# EAGLE library part LI-2 (library Cubesat)
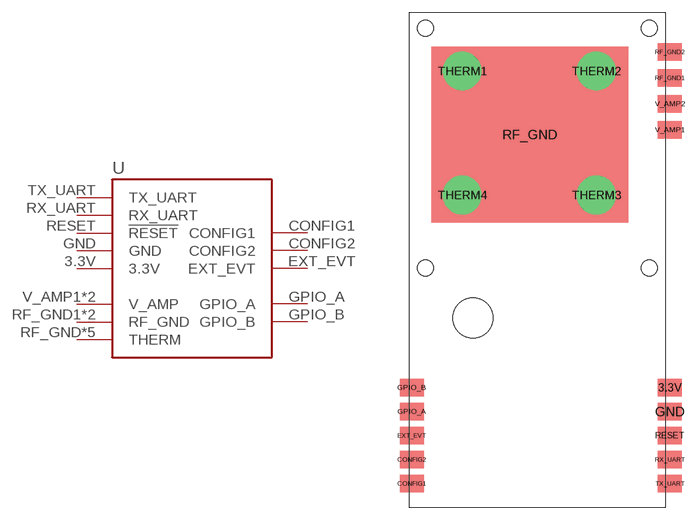
[diagram p5: symbol with the pads of LI-2; footprint LI-2]

Designator prefix -

## LI-2  [LI-2]
3.3V  3.3V  pwr
CONFIG1  CONFIG1
CONFIG2  CONFIG2
EXT_EVT  EXT_EVT
GND  GND  pwr
GPIO_A  GPIO_A
GPIO_B  GPIO_B
RESET  !RESET  in
RF_GND  THERM  pas
RF_GND1  RF_GND  pwr
RF_GND2  RF_GND  pwr
RX_UART  RX_UART  in
THERM1  THERM  pas
THERM2  THERM  pas
THERM3  THERM  pas
THERM4  THERM  pas
TX_UART  TX_UART  out
V_AMP1  V_AMP  pwr
V_AMP2  V_AMP  pwr

## Footprint LI-2 (pad centres in mm)
This is the footprint for the Astrodev Lithium Li-1 radio
smd 3 x 2.15: 3.3V 32.6,15; CONFIG1 0.3,3; CONFIG2 0.3,6; EXT_EVT 0.3,9; GND 32.6,12; GPIO_A 0.3,12; GPIO_B 0.3,15; RESET 32.6,9; RF_GND1 32.6,53.75; RF_GND2 32.6,57; RX_UART 32.6,6; TX_UART 32.6,3; V_AMP1 32.6,47.25; V_AMP2 32.6,50.5
smd 24.6 x 21.98: RF_GND 15.08,46.66
drill 3.81: THERM1 6.62,54.61; THERM2 23.4,54.61; THERM3 23.4,39.1; THERM4 6.62,39.1
hole 2 at 2,60
hole 2 at 2,30
hole 2 at 30,60
hole 2 at 30,30
hole 5 at 7.97,23.73